# EAGLE library part AD630 (library MyLockIn)
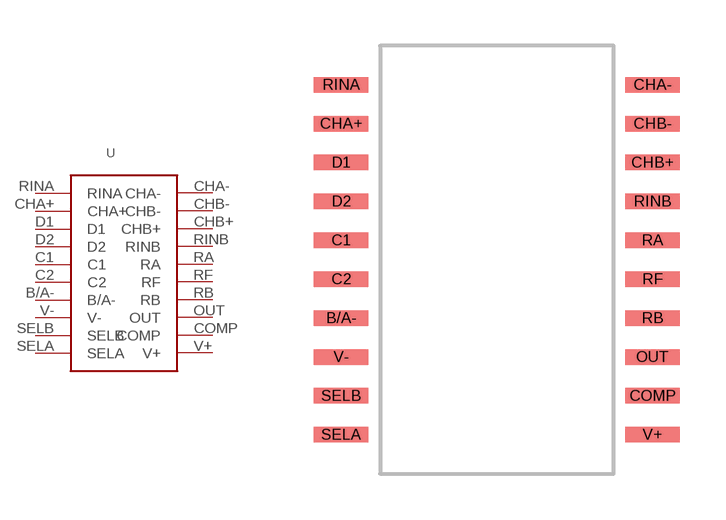
[diagram p3: symbol with the pads of AD630; footprint AD630]

Designator prefix -

## AD630  [AD630]
B/A-  B/A-
C1  C1
C2  C2
CHA+  CHA+
CHA-  CHA-
CHB+  CHB+
CHB-  CHB-
COMP  COMP
D1  D1
D2  D2
OUT  OUT
RA  RA
RB  RB
RF  RF
RINA  RINA
RINB  RINB
SELA  SELA
SELB  SELB
V+  V+
V-  V-

## Footprint AD630 (pad centres in mm)
smd 1.778 x 0.508: B/A- -5.08,-1.27; C1 -5.08,1.27; C2 -5.08,0; CHA+ -5.08,5.08; CHA- 5.08,6.35; CHB+ 5.08,3.81; CHB- 5.08,5.08; COMP 5.08,-3.81; D1 -5.08,3.81; D2 -5.08,2.54; OUT 5.08,-2.54; RA 5.08,1.27; RB 5.08,-1.27; RF 5.08,0; RINA -5.08,6.35; RINB 5.08,2.54; SELA -5.08,-5.08; SELB -5.08,-3.81; V+ 5.08,-5.08; V- -5.08,-2.54